# Altium footprint library CommonPcb.PcbLib: 194 footprints (part 11 of 13)
Each footprint in its own frame and in the unit in brackets; x right, y up, seen from the top. Pads: shape width x height; smd on the part's side, far side on the other; paste and mask are expansions set on the pad; w line width, h text height; cw(c..) or ccw(c..) is an arc to the next point about the centre after c.
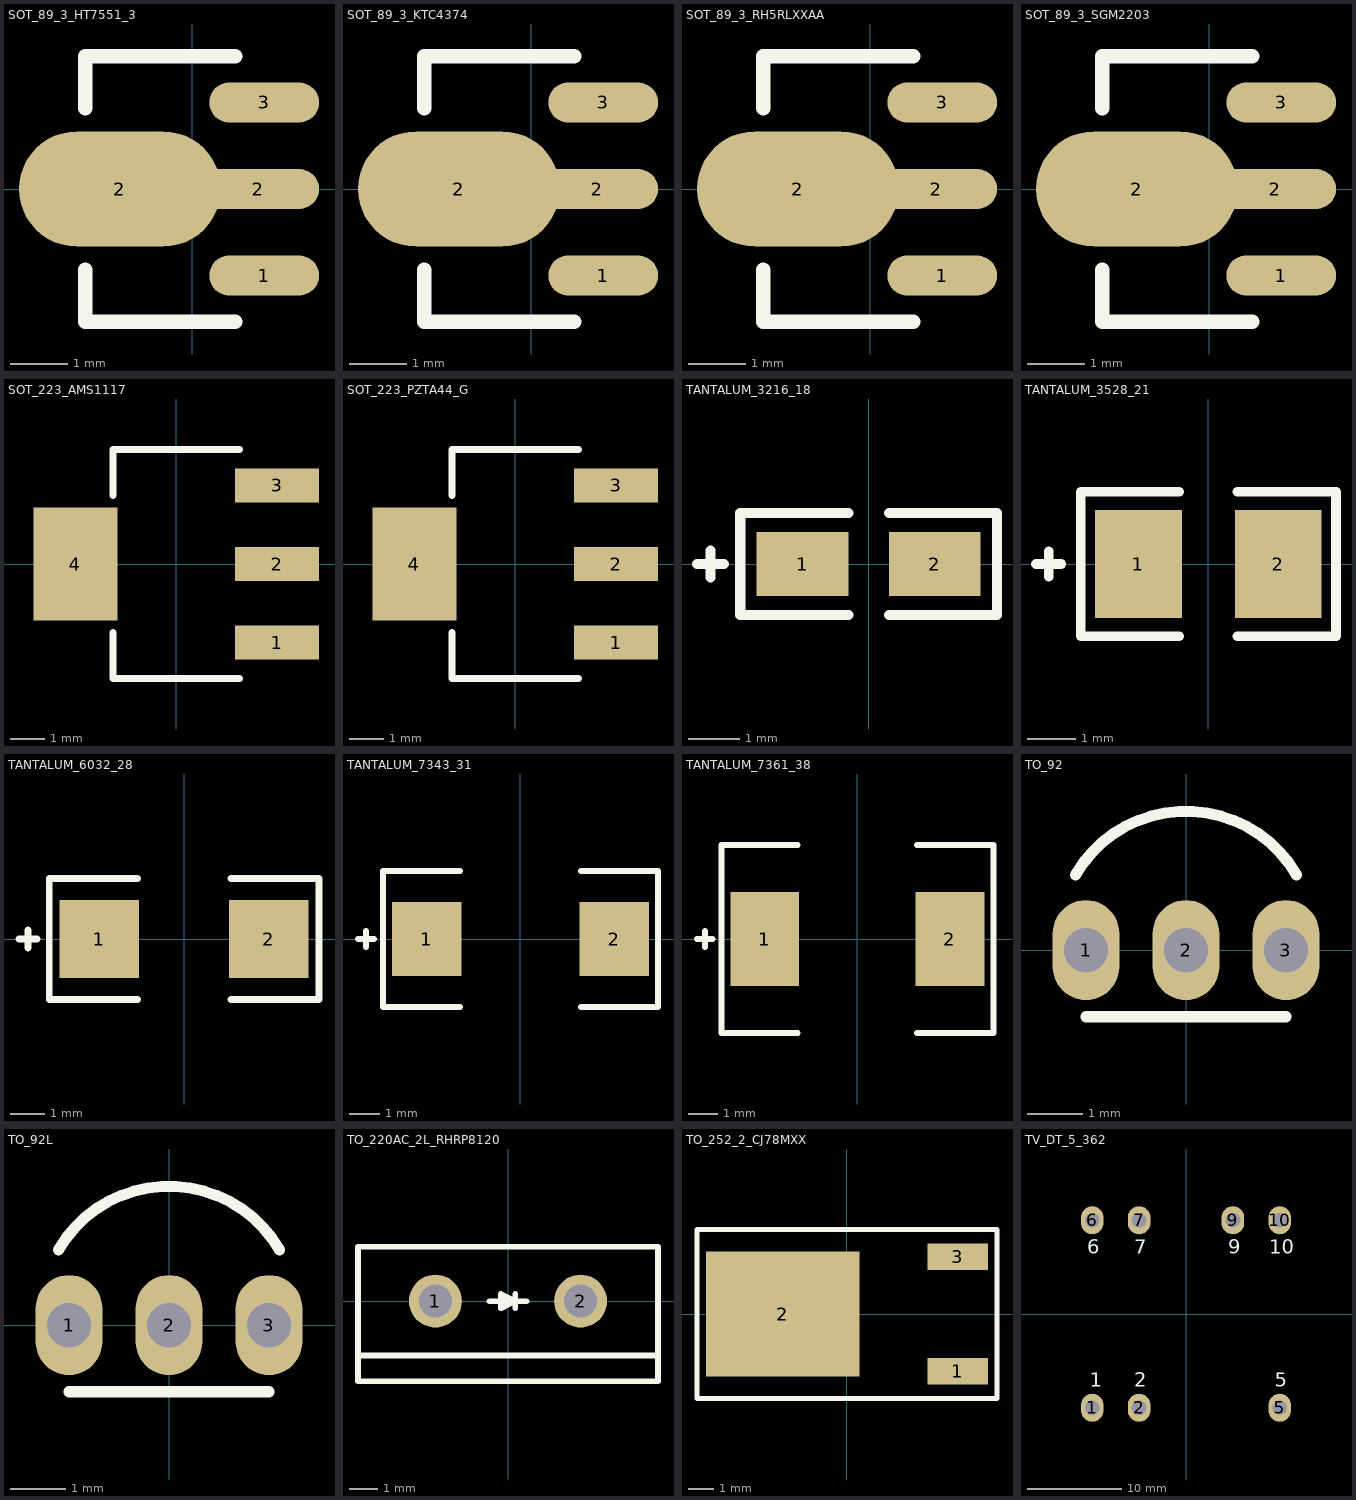
[diagram p10: the footprints below, top view; thin cyan lines are the x and y axes]

## SOT_89_3_HT7551_3 [mm] "SOT_89_3"
pads (4):
  oval 1.9x0.7 smd mask+0.1: 1(1.25,-1.5) 3(1.25,1.5)
  oval 3.5x2 smd mask+0.1: 2(-1.25,0)
  oval 2.1x0.7 smd mask+0.1: 2(1.15,0)
Top Overlay:
  lines w0.254: -1.85,-1.4 -1.85,-2.3 0.75,-2.3 ; -1.85,1.4 -1.85,2.3 0.75,2.3
3D body: height 0, standoff 0, extent -3.225,-2.3 2.525,2.325

## SOT_89_3_KTC4374 [mm] "SOT_89_3"
pads (4):
  oval 1.9x0.7 smd mask+0.1: 1(1.25,-1.5) 3(1.25,1.5)
  oval 3.5x2 smd mask+0.1: 2(-1.25,0)
  oval 2.1x0.7 smd mask+0.1: 2(1.15,0)
Top Overlay:
  lines w0.254: -1.85,-1.4 -1.85,-2.3 0.75,-2.3 ; -1.85,1.4 -1.85,2.3 0.75,2.3
3D body: height 0, standoff 0, extent -3.225,-2.3 2.525,2.325

## SOT_89_3_RH5RLXXAA [mm] "SOT_89_3"
pads (4):
  oval 1.9x0.7 smd mask+0.1: 1(1.25,-1.5) 3(1.25,1.5)
  oval 3.5x2 smd mask+0.1: 2(-1.25,0)
  oval 2.1x0.7 smd mask+0.1: 2(1.15,0)
Top Overlay:
  lines w0.254: -1.85,-1.4 -1.85,-2.3 0.75,-2.3 ; -1.85,1.4 -1.85,2.3 0.75,2.3
3D body: height 0, standoff 0, extent -3.225,-2.3 2.525,2.325

## SOT_89_3_SGM2203 [mm] "SOT_89_3"
pads (4):
  oval 1.9x0.7 smd mask+0.1: 1(1.25,-1.5) 3(1.25,1.5)
  oval 3.5x2 smd mask+0.1: 2(-1.25,0)
  oval 2.1x0.7 smd mask+0.1: 2(1.15,0)
Top Overlay:
  lines w0.254: -1.85,-1.4 -1.85,-2.3 0.75,-2.3 ; -1.85,1.4 -1.85,2.3 0.75,2.3
3D body: height 0, standoff 0, extent -3.225,-2.3 2.525,2.325

## SOT_223_AMS1117 [mm] "SOT_223"
height 1.7
pads (4):
  rect 2.45x1 smd mask+0.1: 1(2.95,-2.3) 2(2.95,0) 3(2.95,2.3)
  rect 2.45x3.3 smd mask+0.1: 4(-2.95,0)
Top Overlay:
  lines w0.2: -1.85,-2 -1.85,-3.35 1.85,-3.35 ; -1.85,2 -1.85,3.35 1.85,3.35
3D body: height 1.7, standoff 0, extent -4.199,-3.349 4.199,3.349

## SOT_223_PZTA44_G [mm] "SOT_223"
height 1.7
pads (4):
  rect 2.45x1 smd mask+0.1: 1(2.95,-2.3) 2(2.95,0) 3(2.95,2.3)
  rect 2.45x3.3 smd mask+0.1: 4(-2.95,0)
Top Overlay:
  lines w0.2: -1.85,-2 -1.85,-3.35 1.85,-3.35 ; -1.85,2 -1.85,3.35 1.85,3.35
3D body: height 1.7, standoff 0, extent -4.199,-3.349 4.199,3.349

## TANTALUM_3216_18 [mm] "A 3216-18"
height 18
pads (2):
  rect 1.8x1.25 smd mask+0.1: 1(-1.3,0) 2(1.3,0)
Top Overlay:
  lines w0.2: -3.375,0 -2.85,0 ; -3.113,-0.262 -3.113,0.263 ; -0.4,-1 -2.525,-1 -2.525,1 -0.4,1 ; 0.4,-1 2.525,-1 2.525,1 0.4,1
3D body: height 0, standoff 0, extent -1.7,-0.9 1.7,0.9

## TANTALUM_3528_21 [mm] "B 3528-21"
height 21
pads (2):
  rect 1.8x2.25 smd mask+0.1: 1(-1.45,0) 2(1.45,0)
Top Overlay:
  lines w0.2: -3.575,0 -3.05,0 ; -3.313,-0.262 -3.313,0.263 ; -0.6,-1.5 -2.65,-1.5 -2.65,1.5 -0.6,1.5 ; 0.6,-1.5 2.65,-1.5 2.65,1.5 0.6,1.5
3D body: height 0, standoff 0, extent -1.9,-1.5 1.9,1.5

## TANTALUM_6032_28 [mm] "C 6032-28"
height 28
pads (2):
  rect 2.3x2.25 smd mask+0.1: 1(-2.45,0) 2(2.45,0)
Top Overlay:
  lines w0.2: -4.775,0 -4.25,0 ; -4.513,-0.262 -4.513,0.263 ; -1.35,-1.75 -3.9,-1.75 -3.9,1.75 -1.35,1.75 ; 1.35,-1.75 3.9,-1.75 3.9,1.75 1.35,1.75
3D body: height 0, standoff 0, extent -3.1,-1.7 3.1,1.7

## TANTALUM_7343_31 [mm] "D 7343-31"
height 31
pads (2):
  rect 2.3x2.45 smd mask+0.1: 1(-3.1,0) 2(3.1,0)
Top Overlay:
  lines w0.2: -5.375,0 -4.85,0 ; -5.113,-0.262 -5.113,0.263 ; -2,-2.25 -4.55,-2.25 -4.55,2.25 -2,2.25 ; 2,-2.25 4.55,-2.25 4.55,2.25 2,2.25
3D body: height 0, standoff 0, extent -3.75,-2.25 3.75,2.25

## TANTALUM_7361_38 [mm] "V 7361-38"
height 38
pads (2):
  rect 2.3x3.15 smd mask+0.1: 1(-3.1,0) 2(3.1,0)
Top Overlay:
  lines w0.2: -5.375,0 -4.85,0 ; -5.113,-0.262 -5.113,0.263 ; -2,-3.15 -4.55,-3.15 -4.55,3.15 -2,3.15 ; 2,-3.15 4.55,-3.15 4.55,3.15 2,3.15
3D body: height 0, standoff 0, extent -3.75,-3.15 3.75,3.15

## TO_92 [mm]
pads (3):
  oval 1.2x1.8 hole 0.8 mask+0.1: 1(-1.8,0) 2(0,0) 3(1.8,0)
Top Overlay:
  lines w0.2: -1.992,1.35 cw(c0,0.2) 1.992,1.35 ; -1.8,-1.2 1.8,-1.2
3D body: height 0, standoff 0, extent -1.994,-1.201 1.994,2.503

## TO_92L [mm]
pads (3):
  oval 1.2x1.8 hole 0.8 mask+0.1: 1(-1.8,0) 2(0,0) 3(1.8,0)
Top Overlay:
  lines w0.2: -1.992,1.35 cw(c0,0.2) 1.992,1.35 ; -1.8,-1.2 1.8,-1.2
3D body: height 0, standoff 0, extent -1.994,-1.201 1.994,2.503

## TO_220AC_2L_RHRP8120 [mm] "TO_220AC_2L_RHRP8120"
pads (2):
  round 1.85 hole 1.15 mask+0.1: 1(-2.54,0) 2(2.54,0)
Top Overlay:
  lines w0.2: -5.25,-1.9 5.25,-1.9 ; -0.65,0 -0.25,0 0.25,0 ; 0.25,-0.25 0.25,0.25 ; 0.65,0 0.25,0 ; 0.25,0 -0.25,0.25 -0.25,-0.25 0.25,0 ; -5.25,-2.8 -5.25,1.9 5.25,1.9 5.25,-2.8 -5.25,-2.8
3D body: height 0, standoff 0, extent -5.25,-2.8 5.25,1.9

## TO_252_2_CJ78MXX [mm] "TO_252_2    DPAK"
pads (3):
  rect 2.4x1.05 smd mask+0.1: 1(4.4,-2.28) 3(4.4,2.28)
  rect 6.1x4.95 smd mask+0.1: 2(-2.55,0)
Top Overlay:
  lines w0.2: -5.95,-3.35 -5.95,3.35 5.95,3.35 5.95,-3.35 -5.95,-3.35
3D body: height 0, standoff 0, extent -5.95,-3.35 5.95,3.35

## TV_DT_5_362 [mm] "TV_DT_5_362"
pads (7):
  oval 2.4x3 hole 1.6 mask+0.1: 1(-10,-10) 2(-5,-10) 5(10,-10) 6(-10,10) 7(-5,10) 9(5,10) 10(10,10)
Top Overlay:
  text "1" at -10.254,-7.75 h1.52
  text "9" at 4.492,6.425 h1.52
  text "10" at 8.857,6.425 h1.52
  text "5" at 9.492,-7.75 h1.52
  text "7" at -5.508,6.425 h1.52
  text "2" at -5.508,-7.75 h1.52
  text "6" at -10.508,6.425 h1.52
Bottom Overlay:
  lines w0.2: -16,-14.5 -16,14.5 16,14.5 16,-14.5 -16,-14.5
3D body: height 0, standoff 0, extent -16,-14.5 16,14.5